# EAGLE library part DM163 (library bender_head)
ICP004
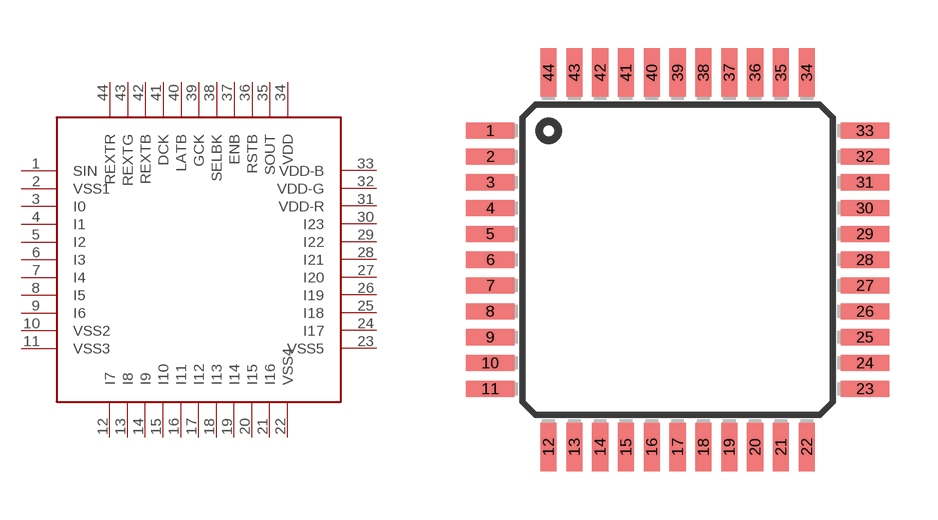
[diagram p1: symbol with the pads of TQFP44; footprint TQFP44]

Designator prefix U

## DM163  [TQFP44]
1  SIN
2  VSS1
3  I0
4  I1
5  I2
6  I3
7  I4
8  I5
9  I6
10  VSS2
11  VSS3
12  I7
13  I8
14  I9
15  I10
16  I11
17  I12
18  I13
19  I14
20  I15
21  I16
22  VSS4
23  VSS5
24  I17
25  I18
26  I19
27  I20
28  I21
29  I22
30  I23
31  VDD-R
32  VDD-G
33  VDD-B
34  VDD
35  SOUT
36  RSTB
37  ENB
38  SELBK
39  GCK
40  LATB
41  DCK
42  REXTB
43  REXTG
44  REXTR

## Footprint TQFP44 (pad centres in mm)
Thin Quad Flat Pack package type TQ
smd 1.5 x 0.5: 1 -5.8,4; 2 -5.8,3.2; 3 -5.8,2.4; 4 -5.8,1.6; 5 -5.8,0.8; 6 -5.8,0; 7 -5.8,-0.8; 8 -5.8,-1.6; 9 -5.8,-2.4; 10 -5.8,-3.2; 11 -5.8,-4; 23 5.8,-4; 24 5.8,-3.2; 25 5.8,-2.4; 26 5.8,-1.6; 27 5.8,-0.8; 28 5.8,0; 29 5.8,0.8; 30 5.8,1.6; 31 5.8,2.4; 32 5.8,3.2; 33 5.8,4
smd 0.5 x 1.5: 12 -4,-5.8; 13 -3.2,-5.8; 14 -2.4,-5.8; 15 -1.6,-5.8; 16 -0.8,-5.8; 17 0,-5.8; 18 0.8,-5.8; 19 1.6,-5.8; 20 2.4,-5.8; 21 3.2,-5.8; 22 4,-5.8; 34 4,5.8; 35 3.2,5.8; 36 2.4,5.8; 37 1.6,5.8; 38 0.8,5.8; 39 0,5.8; 40 -0.8,5.8; 41 -1.6,5.8; 42 -2.4,5.8; 43 -3.2,5.8; 44 -4,5.8